# Altium footprint library DEEP.PcbLib: 11 footprints
Each footprint in its own frame and in the unit in brackets; x right, y up, seen from the top. Pads: shape width x height; smd on the part's side, far side on the other; paste and mask are expansions set on the pad; w line width, h text height; cw(c..) or ccw(c..) is an arc to the next point about the centre after c.
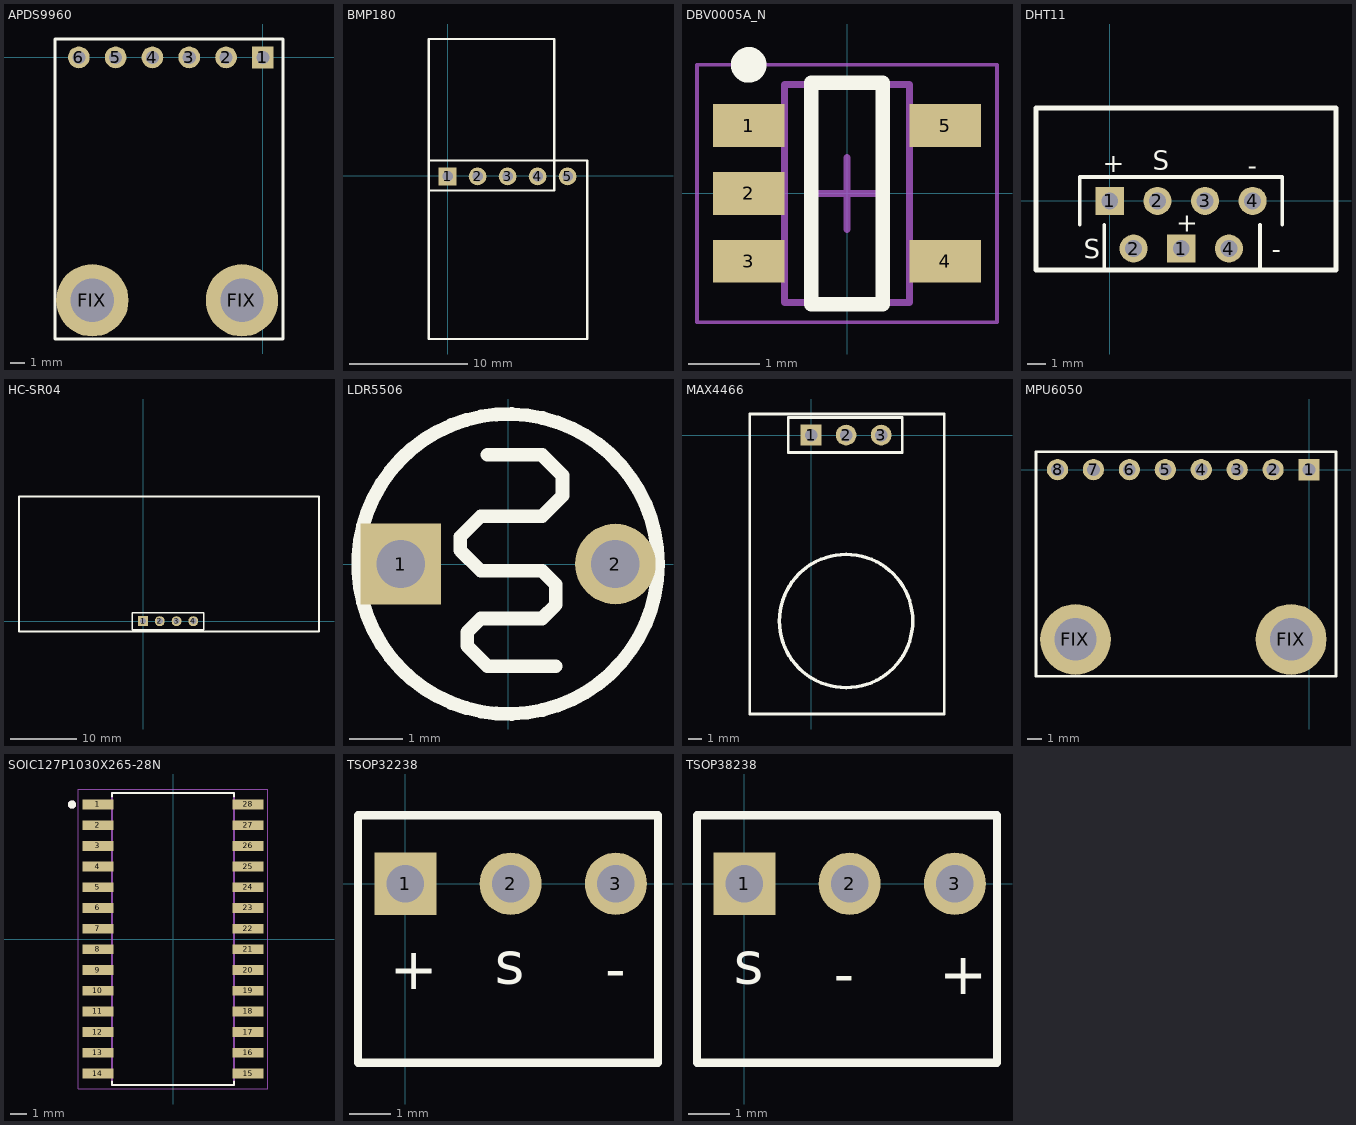
[diagram p0: the footprints below, top view; thin cyan lines are the x and y axes]

## APDS9960 [mm]
pads (8):
  rect 1.5x1.5 hole 0.9: 1(0,0)
  round 1.5 hole 0.9: 2(-2.54,0) 3(-5.08,0) 4(-7.62,0) 5(-10.16,0) 6(-12.7,0)
  round 5 hole 3: FIX(-11.77,-16.76) FIX(-1.44,-16.76)
Top Overlay:
  lines w0.2: -14.351,-19.431 1.397,-19.431 1.397,1.27 -14.351,1.27 -14.351,-19.431
3D body "header 6 droit 1 rangee femelle.STEP": height 8.5, standoff -2.65, extent -14.351,-1.206 1.397,1.207
3D body "APDS9960.STEP": height 14.04, standoff 2.69, extent -14.227,-19.233 1.273,1.207

## BMP180 [mm]
pads (5):
  rect 1.5x1.5 hole 0.9: 1(-0.02,-0.077)
  round 1.5 hole 0.9: 2(2.52,-0.077) 3(5.06,-0.077) 4(7.6,-0.077) 5(10.14,-0.077)
Top Overlay:
  lines w0.2: -1.62,-1.27 9.017,-1.27 9.017,11.557 -1.62,11.557 -1.62,-1.27 ; -1.6,-13.843 11.811,-13.843 11.811,1.27 -1.6,1.27 -1.6,-13.843
3D body "header 5 droit 1 rangee femelle.STEP": height 8.5, standoff -2.65, extent -1.524,-1.277 11.684,1.136
3D body "bmp180.step": height 12.96, standoff 11.29, extent -1.541,-13.85 11.684,1.15
3D body "BMP180 Breakout.step": height 14.24, standoff 2.3, extent -1.29,-1.32 8.91,11.48

## DBV0005A_N [mm] "SOT23, 5-Leads, Body 3.05x1.75mm, Pitch 0.95mm, IPC Medium Density"
height 1.45
pads (5):
  rect 1x0.6 smd: 1(-1.375,0.95) 2(-1.375,0) 3(-1.375,-0.95) 4(1.375,-0.95) 5(1.375,0.95)
Top Overlay:
  circle w0.25: c-1.375,1.8 r0.125
  lines w0.2: -0.5,-1.55 -0.5,1.55 0.5,1.55 0.5,-1.55 -0.5,-1.55
Mechanical 13:
  lines w0.1: -0.875,-1.525 0.875,-1.525 0.875,1.525 -0.875,1.525 -0.875,-1.525
Mechanical 15:
  lines w0.05: -2.1,-1.8 2.1,-1.8 2.1,1.8 -2.1,1.8 -2.1,-1.8
  lines w0.1: -0.5,0 0.5,0 ; 0,-0.5 0,0.5
3D body "DBV0005AaksMF05A.stp": height 1.45, standoff -0.01, extent -1.422,-1.461 1.422,1.46

## DHT11 [mm] "HC-SR04 ; Telemetre UltraSon ; BARRETTE 4 CONTACTS ; 1 RANGEE ; DROITE ; FEMELLE ; ESPACEMENT BROCHES = 2.54 mm"
height 8.6
pads (7):
  rect 1.5x1.5 hole 0.9: 1(0,0) 1(3.81,-2.54)
  round 1.5 hole 0.9: 2(1.27,-2.54) 2(2.54,0) 3(5.08,0) 4(6.35,-2.54) 4(7.62,0)
Top Overlay:
  lines w0.2: -1.6,-1.27 -1.6,1.27 9.2,1.27 9.2,-1.27 ; -0.303,-1.27 -0.303,-3.683 8.011,-3.683 8.011,-1.27
  lines w0.254: -3.937,-3.683 -3.937,4.953 12.065,4.953 12.065,-3.683 -3.937,-3.683
  text "+" at 3.556,-1.651 h1.02
  text "+" at -0.381,1.524 h1.02
  text "-" at 7.366,1.397 h1.02
  text "-" at 8.636,-3.048 h1.02
  text "S" at 2.286,1.651 h1.02
  text "S" at -1.397,-3.048 h1.02
3D body "header 4 droit 1 rangee femelle.STEP": height 8.5, standoff -2.65, extent -1.534,-1.213 9.134,1.2
3D body "dht11_breakout.step": height 30.09, standoff 2.39, extent -3.935,-3.556 12.065,4.944
3D body "dht11.step": height 25.5, standoff 2, extent -2.19,-2.794 9.81,2.706
3D body "header 3 droit 1 rangee femelle.STEP": height 8.5, standoff -2.65, extent -0.254,-3.683 7.874,-1.27

## HC-SR04 [mm] "HC-SR04 ; Telemetre UltraSon ; BARRETTE 4 CONTACTS ; 1 RANGEE ; DROITE ; FEMELLE ; ESPACEMENT BROCHES = 2.54 mm"
height 8.6
pads (4):
  rect 1.5x1.5 hole 0.9: 1(0,0)
  round 1.5 hole 0.9: 2(2.54,0) 3(5.08,0) 4(7.62,0)
Top Overlay:
  lines w0.2: -1.6,-1.27 9.2,-1.27 9.2,1.27 -1.6,1.27 -1.6,-1.27
  lines w0.254: -18.813,-1.577 26.687,-1.577 26.687,18.923 -18.813,18.923 -18.813,-1.577
3D body "HC-SR04.STEP": height 24.78, standoff 2.83, extent -18.813,-1.577 26.687,18.923
3D body "header 4 droit 1 rangee femelle.STEP": height 8.5, standoff -2.65, extent -1.534,-1.213 9.134,1.2

## LDR5506 [mm]
pads (2):
  rect 1.5x1.5 hole 0.9: 1(-2,0)
  round 1.5 hole 0.9: 2(2,0)
Top Overlay:
  circle w0.254: c0,0 r2.794
  lines w0.254: -0.381,2.032 0.635,2.032 1.016,1.651 1.016,1.27 0.635,0.889 -0.254,0.889 -0.508,0.889 -0.889,0.508 -0.889,0.254 -0.508,-0.127 0.254,-0.127 0.635,-0.127 0.889,-0.381 0.889,-0.762 0.635,-1.016 0.127,-1.016 -0.508,-1.016 -0.762,-1.27 -0.762,-1.524 -0.381,-1.905 0.127,-1.905 0.889,-1.905
3D body "LDR5506.STEP": height 1.52, standoff -3, extent -2.5,-1.8 2.5,1.8

## MAX4466 [mm]
pads (3):
  rect 1.5x1.5 hole 0.9: 1(0,0)
  round 1.5 hole 0.9: 2(2.54,0) 3(5.08,0)
Top Overlay:
  circle w0.254: c2.54,-13.462 r4.826
  lines w0.2: -4.445,-20.193 -4.445,1.524 9.652,1.524 9.652,-20.193 -4.445,-20.193 ; -1.651,-1.27 6.604,-1.27 6.604,1.27 -1.651,1.27 -1.651,-1.27
3D body "Max4466.STEP": height 17.6, standoff 3, extent -4.445,-20.066 9.525,1.524
3D body "header 3 droit 1 rangee femelle.STEP": height 8.5, standoff -2.65, extent -1.564,-1.213 6.564,1.2

## MPU6050 [mm]
pads (10):
  rect 1.5x1.5 hole 0.9: 1(0,0)
  round 1.5 hole 0.9: 2(-2.54,0) 3(-5.08,0) 4(-7.62,0) 5(-10.16,0) 6(-12.7,0) 7(-15.24,0) 8(-17.78,0)
  round 5 hole 3: FIX(-16.51,-12) FIX(-1.27,-12)
Top Overlay:
  lines w0.2: -19.3,-14.605 1.905,-14.605 1.905,1.27 -19.3,1.27 -19.3,-14.605
3D body "header 8 droit 1 rangee femelle.STEP": height 8.5, standoff -2.65, extent -19.3,-1.2 1.528,1.213
3D body "MPU6050.stp": height 14.7, standoff 3.53, extent -19.18,-14.541 1.928,1.334

## SOIC127P1030X265-28N [mm]
pads (28):
  rect 1.9x0.6 smd: 1(-4.605,8.255) 2(-4.605,6.985) 3(-4.605,5.715) 4(-4.605,4.445) 5(-4.605,3.175) 6(-4.605,1.905) 7(-4.605,0.635) 8(-4.605,-0.635) 9(-4.605,-1.905) 10(-4.605,-3.175) 11(-4.605,-4.445) 12(-4.605,-5.715) 13(-4.605,-6.985) 14(-4.605,-8.255) 15(4.605,-8.255) 16(4.605,-6.985) 17(4.605,-5.715) 18(4.605,-4.445) 19(4.605,-3.175) 20(4.605,-1.905) 21(4.605,-0.635) 22(4.605,0.635) 23(4.605,1.905) 24(4.605,3.175) 25(4.605,4.445) 26(4.605,5.715) 27(4.605,6.985) 28(4.605,8.255)
Top Overlay:
  circle w0.3: c-6.2,8.25 r0.1
  lines w0.127: -3.75,-8.75 -3.75,-8.95 3.75,-8.95 3.75,-8.75 ; -3.75,8.75 -3.75,8.95 3.75,8.95 3.75,8.75
Mechanical 13:
  circle w0.3: c-6.2,8.25 r0.1
  lines w0.127: -3.75,-8.95 -3.75,8.95 3.75,8.95 3.75,-8.95 -3.75,-8.95
Mechanical 15:
  lines w0.05: -5.805,-9.2 -5.805,9.2 5.805,9.2 5.805,-9.2 -5.805,-9.2

## TSOP32238 [mm] "TSOP32238"
pads (3):
  rect 1.5x1.5 hole 0.9: 1(0,0)
  round 1.5 hole 0.9: 2(2.54,0) 3(5.08,0)
Top Overlay:
  lines w0.2: -1.143,-4.318 6.096,-4.318 6.096,1.651 -1.143,1.651 -1.143,-4.318
  text "-" at 4.826,-2.54 h1.02
  text "s" at 2.159,-2.413 h1.02
  text "+" at -0.381,-2.54 h1.02
3D body "tsop4838.STEP": height 9.47, standoff -2.3, extent -0.459,-4.191 5.539,1.409

## TSOP38238 [mm] "TSOP38238"
pads (3):
  rect 1.5x1.5 hole 0.9: 1(0,0)
  round 1.5 hole 0.9: 2(2.54,0) 3(5.08,0)
Top Overlay:
  lines w0.2: -1.143,-4.318 6.096,-4.318 6.096,1.651 -1.143,1.651 -1.143,-4.318
  text "-" at 2.159,-2.667 h1.02
  text "s" at -0.254,-2.413 h1.02
  text "+" at 4.699,-2.667 h1.02
3D body "tsop4838.STEP": height 9.47, standoff -2.3, extent -0.459,-4.191 5.539,1.409